# EAGLE library part TXS0102 (library rgb_cube)
TI TXS0102 Level Shifter Auto-sensing level shifter, e.g. for I2C or UART.
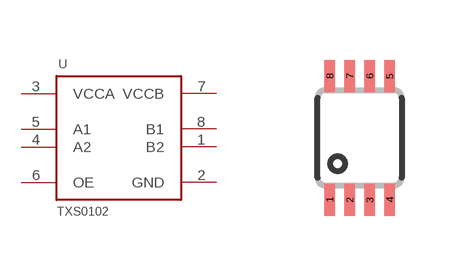
[diagram p41: symbol with the pads of TI-DCU; footprint TI-DCU]

Designator prefix -

## TXS0102DCUR  [TI-DCU]
1  B2
2  GND  sup
3  VCCA  in
4  A2
5  A1
6  OE  in
7  VCCB  in
8  B1

## Footprint TI-DCU (pad centres in mm)
smd 0.27 x 0.8: 1 -0.75,-1.55; 2 -0.25,-1.55; 3 0.25,-1.55; 4 0.75,-1.55; 5 0.75,1.55; 6 0.25,1.55; 7 -0.25,1.55; 8 -0.75,1.55